# EAGLE library part LM75_IC (library lm75)
Temperatursensor
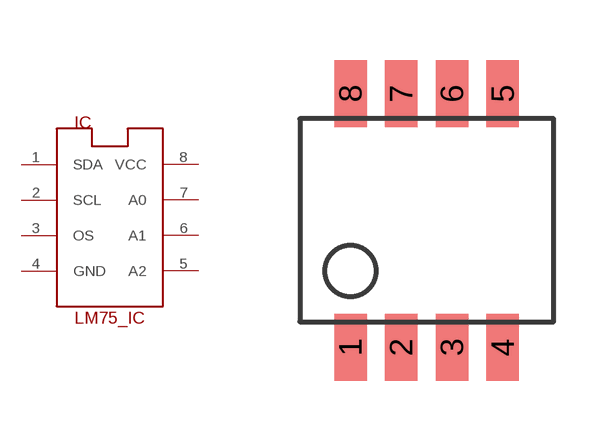
[diagram p0: symbol with the pads of SO8_LM75; footprint SO8_LM75]

Designator prefix IC

## LM75_ICN  [SO8_LM75]
1  SDA
2  SCL
3  OS  out
4  GND  pwr
5  A2  in
6  A1  in
7  A0  in
8  VCC  pwr

## Footprint SO8_LM75 (pad centres in mm)
smd 0.813 x 1.676: 1 -1.27,-3.175; 2 0,-3.175; 3 1.27,-3.175; 4 2.54,-3.175; 5 2.54,3.175; 6 1.27,3.175; 7 0,3.175; 8 -1.27,3.175